# Altium footprint library B2B-XASK-1.PcbLib: 1 footprints
Each footprint in its own frame and in the unit in brackets; x right, y up, seen from the top. Pads: shape width x height; smd on the part's side, far side on the other; paste and mask are expansions set on the pad; w line width, h text height; cw(c..) or ccw(c..) is an arc to the next point about the centre after c.
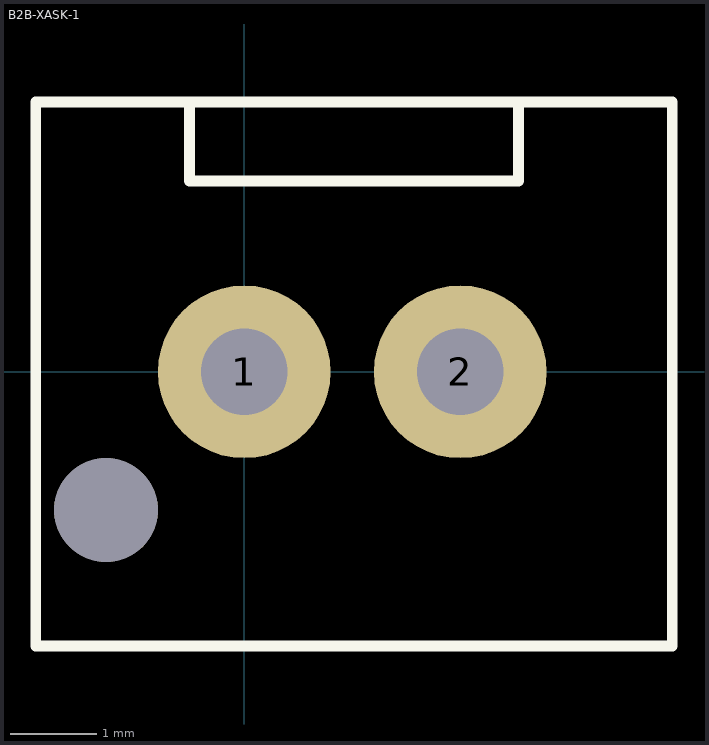
[diagram p0: the footprint, top view; thin cyan lines are the x and y axes]

## B2B-XASK-1 [mm] "2 pin, Top Entry Type, JST, XA-Series"
height 8.8
pads (3):
  round 2 hole 1: 1(0,0) 2(2.5,0)
  round 1.2 hole 1.2 unplated: ""(-1.6,-1.6)
Top Overlay:
  lines w0.125: -0.635,3.124 -0.635,2.21 3.175,2.21 3.175,3.124 ; -2.413,-3.175 4.953,-3.175 4.953,3.124 -2.413,3.124 -2.413,-3.175
3D body "B02B-XASK-1-A.STEP": height 8.8, standoff -3.4, extent -2.48,-3.225 5.02,3.175